# EAGLE library part ISP (library attniy85_prog_shield)
CONNECTOR 6-pin series 057 contact pc board low profile headers
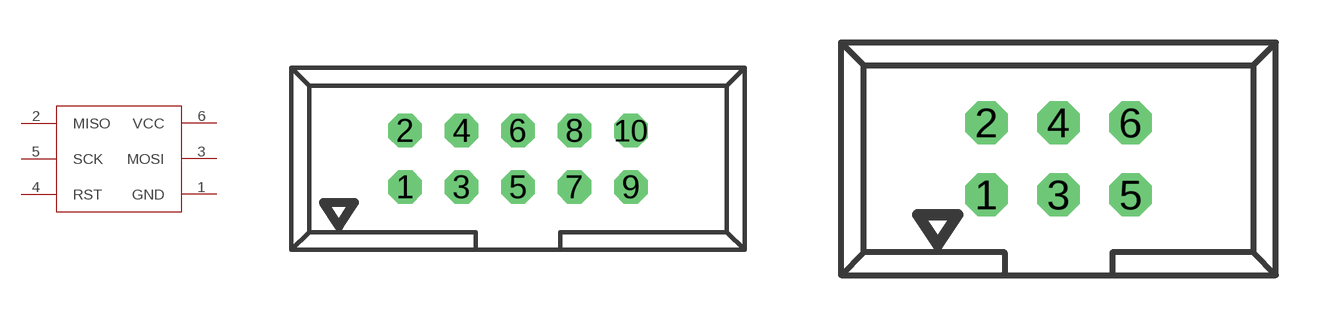
[diagram p5: symbol with the pads of ISP10PIN; footprints ISP10PIN, ISP6PIN]

Designator prefix X

## ISP10P  [ISP10PIN]
1  GND
2  MISO
3  MOSI
4  RST
5  SCK
6  VCC

## ISP6PIN  [ISP6PIN]
Pads as for ISP10PIN

## Footprint ISP10PIN (pad centres in mm)
CONNECTOR series 057 contact pc board low profile headers straight
drill 1 octagon: 1 -5.08,-1.27; 2 -5.08,1.27; 3 -2.54,-1.27; 4 -2.54,1.27; 5 0,-1.27; 6 0,1.27; 7 2.54,-1.27; 8 2.54,1.27; 9 5.08,-1.27; 10 5.08,1.27

## Footprint ISP6PIN (pad centres in mm)
CONNECTOR series 057 contact pc board low profile headers straight
drill 1 octagon: 1 -2.54,-1.27; 2 -2.54,1.27; 3 0,-1.27; 4 0,1.27; 5 2.54,-1.27; 6 2.54,1.27